# Altium schematic symbol library BD48XXX.SchLib: 1 symbol
Pins are listed as number, name and electrical type; pins without a type are passive.

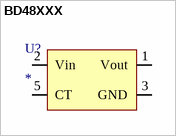
[diagram p0: symbol BD48XXX]

## BD48XXX
designator U?
Value: *
pins: 1 Vout, 2 Vin, 3 GND, 5 CT